# Altium footprint library BCM-STD.PcbLib: 1 footprints
Each footprint in its own frame and in the unit in brackets; x right, y up, seen from the top. Pads: shape width x height; smd on the part's side, far side on the other; paste and mask are expansions set on the pad; w line width, h text height; cw(c..) or ccw(c..) is an arc to the next point about the centre after c.
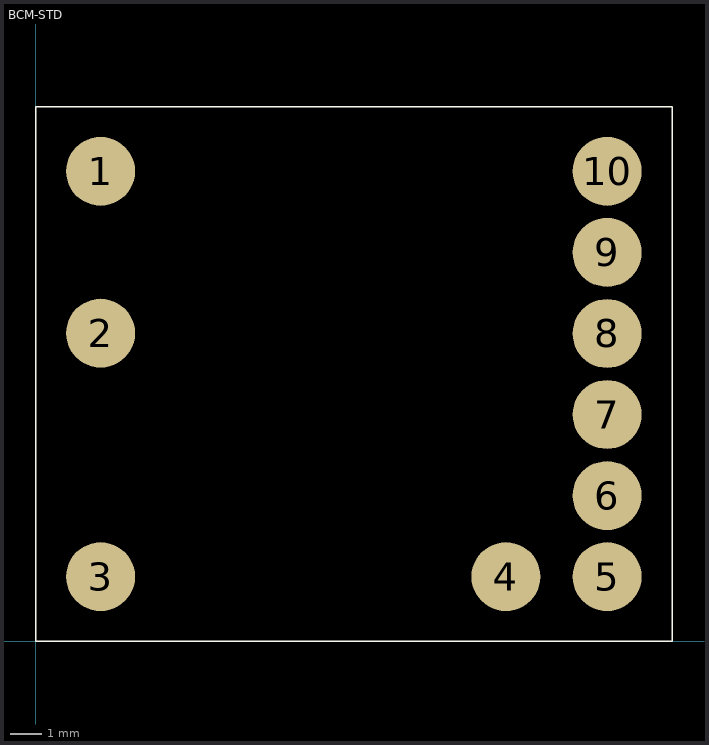
[diagram p0: the footprint, top view; thin cyan lines are the x and y axes]

## BCM-STD [mm]
pads (10):
  round 2.16 smd paste-0.05: 1(2.03,14.73) 2(2.03,9.66) 3(2.03,2.03) 4(14.73,2.03) 5(17.9,2.03) 6(17.9,4.57) 7(17.9,7.11) 8(17.9,9.65) 9(17.9,12.19) 10(17.9,14.73)
Top Overlay:
  lines w0.05: 0,0 19.94,0 19.94,16.76 0,16.76 0,0